# EAGLE library part SPARKFUN-DISCRETESEMI_TRANS_PNP_DUAL (library kxnStandard_transistor)
Dual PNP Transistors in Single Package The BCM857BS puts two PNP transistors in a single package. Bipolar (BJT) Transistor Array 2 PNP (Dual) 45V 100mA 100MHz 200mW Surface Mount SOT-363 Datasheet <https://www.diodes.com/assets/Datasheets/BCM857BS.pdf> SparkFun Products: SparkFun Pi Servo HAT V2 <https://www.sparkfun.com>
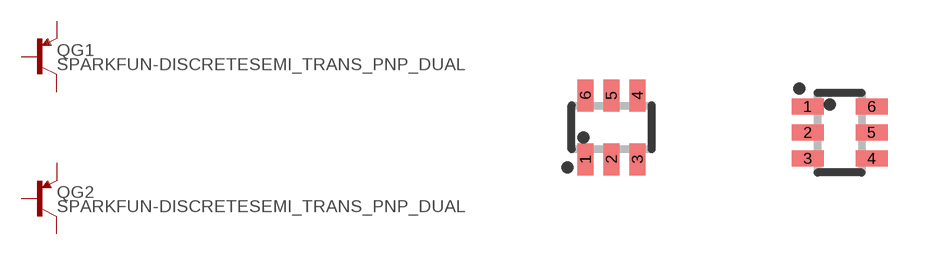
[diagram p1: symbol with the pads of SPARKFUN-DISCRETESEMI_SOT363_PHILIPS; footprints SPARKFUN-DISCRETESEMI_SOT363_PHILIPS, SOT363_NXP_KXN]

Designator prefix Q; gates G1=SPARKFUN-DISCRETESEMI_PNP G2=SPARKFUN-DISCRETESEMI_PNP

## SPARKFUN-DISCRETESEMI_TRANS_PNP_DUALSOT-363 (PROD_ID: TRANS-14386)  [SPARKFUN-DISCRETESEMI_SOT363_PHILIPS]
1  G1:E  pas
2  G1:B  pas
3  G2:C  pas
4  G2:E  pas
5  G2:B  pas
6  G1:C  pas

## SPARKFUN-DISCRETESEMI_TRANS_PNP_DUAL_BC857BS_DUAL_PNP_NXP  [SOT363_NXP_KXN]
Pads as for SPARKFUN-DISCRETESEMI_SOT363_PHILIPS

## Footprint SPARKFUN-DISCRETESEMI_SOT363_PHILIPS (pad centres in mm)
Small Outline Transistor; 6 leads Philips Semiconductors, SOT363.pdf
smd 0.4 x 0.8: 1 -0.65,-0.8; 2 0,-0.8; 3 0.65,-0.8; 4 0.65,0.8; 5 0,0.8; 6 -0.65,0.8

## Footprint SOT363_NXP_KXN (pad centres in mm)
Marking BC857BS - (.3Ft) BCM857BS - (.A9t): Dual PNP; 45V 100mA; 0.78te BCM856BS - (.tBS): Dual PNP; 65V 100mA; 0.65te PUMD10 - (.Dt0): Dual NPN-PNP; R1=2K2; R2=47K; 50V 100mA PMBT2222AYSX - (.BFt): Dual NPN 40V 600mA; 0.58te https://item.taobao.com/item.htm?spm=a312a.7700824.w4002-24706531953.57.1d236a4bUOGiLR&id=697012906510
smd 0.8 x 0.4: 1 -0.8,0.65; 2 -0.8,0; 3 -0.8,-0.65; 4 0.8,-0.65; 5 0.8,0; 6 0.8,0.65